# EAGLE library part 10118194-0001LF (library USB connector)
CONN RCPT USB2.0 MICRO B SMD R/A Manufacturer's datasheet <https://www.amphenol-icc.com/media/wysiwyg/files/drawing/10118194.pdf?__cf_chl_jschl_tk__=1e9b4569481076e99900b246ea640525553a7b60-1588047333-0-AZhEk6D50lwOf6CdaXmV1teudqMKHMxqtb1pEtnUtu77sOc-OVRjbCmHdORomVnr0W49D2E8XkcMdJ2SdWt5rDDYIblyJz7fSv-zilM8vQKAQDC1Z9aMVORhnMgYjPDuz8XpfDLul_eaqqFpemo1xIgoZv50WTuLMwu26ci7e02s9PWvR3z1cDqm9GMGYIPwIUd9yh5-TtN_o6DbEkadC7zoJlhYZSw-VEaYzfWnBSFg_n44fbEB3slHLR2YKLSiTmh8RSwpxKUP4gER0KeVoie9w-Ibtx3oKQbsZjrsPLGSu9BzV2nf3QeoErALCQuycvY9WhQdebLIpxaon6SXufpVIIdoKZHRpjuVVlAkUIr9oSIZGQzzOWY1-dWY48jVEOvnvoxw9-xup5uFcr7XWo0>
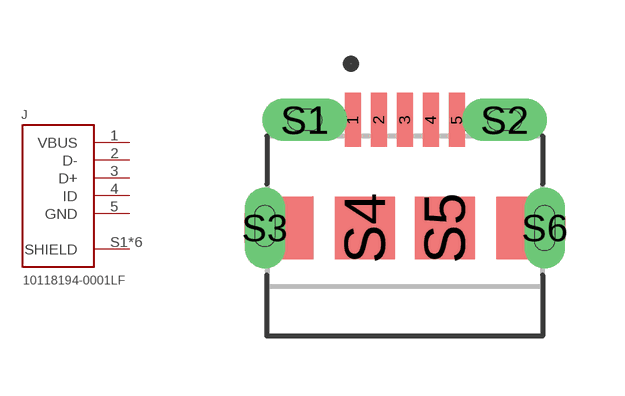
[diagram p10: symbol with the pads of 10118194-0001LF; footprint 10118194-0001LF]

Designator prefix J

## 10118194-0001LF (CREATED_BY: PCBLayout.com; DIGIKEY_PARTNO: 609-4618-2-ND; MANUFACTURER: Amphenol ICC (FCI); MPN: 10118194-0001LF)  [10118194-0001LF]
1  VBUS  pas
2  D-  pas
3  D+  pas
4  ID  pas
5  GND  pas
S1  SHIELD  pwr
S2  SHIELD  pwr
S3  SHIELD  pwr
S4  SHIELD  pwr
S5  SHIELD  pwr
S6  SHIELD  pwr

## Footprint 10118194-0001LF (pad centres in mm)
smd 0.4 x 1.35: 1 -1.3,2.7; 2 -0.65,2.7; 3 0,2.7; 4 0.65,2.7; 5 1.3,2.7
drill 0.55 pad 0.65 long: S1 -2.5,2.7; S2 2.5,2.7
drill 0.5 pad 0.775 long: S3 -3.5,0; S6 3.5,0
smd 1.5 x 1.55: S4 -1,0; S5 1,0